# Altium footprint library SparkFun-Sensors.PCBLIB: 67 footprints (part 3 of 5)
Each footprint in its own frame and in the unit in brackets; x right, y up, seen from the top. Pads: shape width x height; smd on the part's side, far side on the other; paste and mask are expansions set on the pad; w line width, h text height; cw(c..) or ccw(c..) is an arc to the next point about the centre after c.
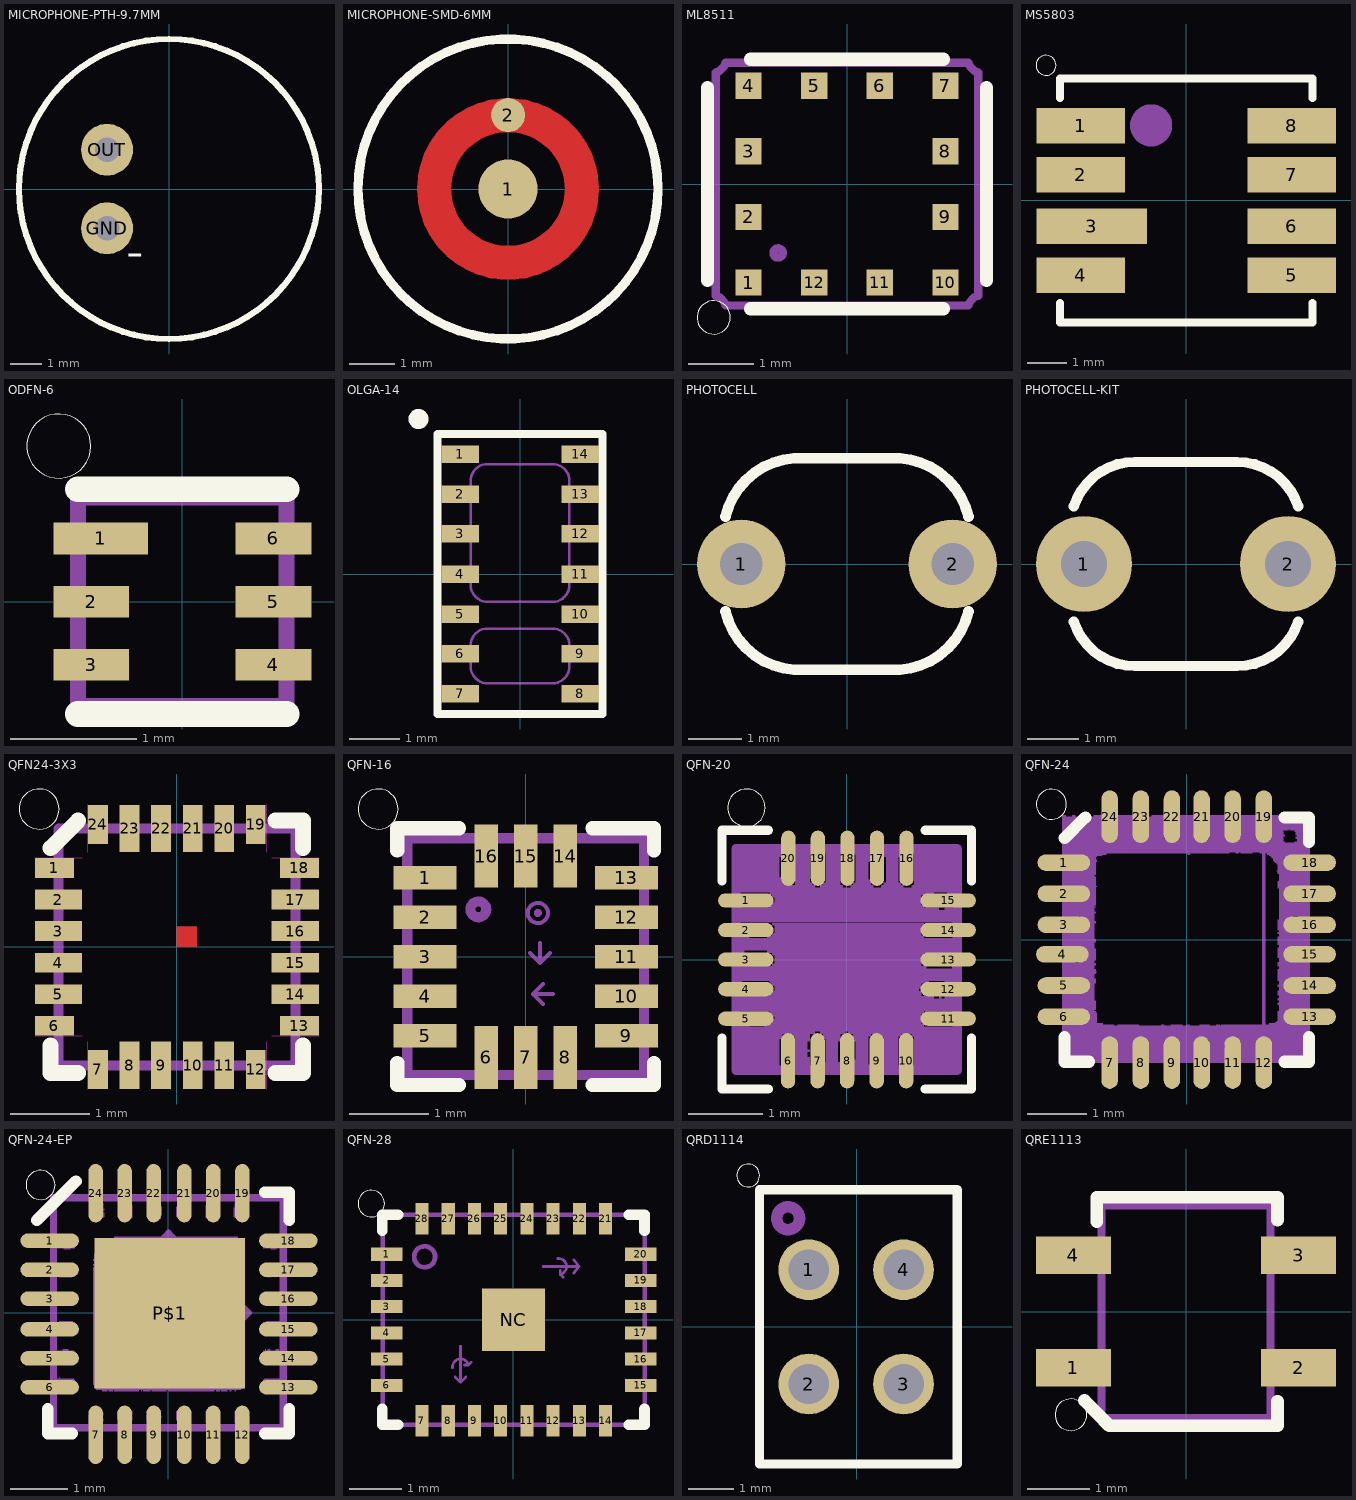
[diagram p2: the footprints below, top view; thin cyan lines are the x and y axes]

## MICROPHONE-PTH-9.7MM [mil]
pads (2):
  round 66 hole 31.5: GND(-78.74,-50) OUT(-78.74,50)
Top Overlay:
  circle w8: c0,0 r190.94
  text "-" at -54.57,-115.35 h77.5
Bottom Overlay:
  text "-" at -20.24,-115.35 h77.5

## MICROPHONE-SMD-6MM [mm]
pads (2):
  rrect100% 1.3x1.3 smd: 1(0,0)
  rrect100% 0.75x0.75 smd: 2(0.003,1.626)
Top Layer:
  circle w0.75: c0,0 r1.625
Top Overlay:
  circle w0.203: c0,0 r3.3
Top Paste:
  circle w0.305: c0,0 r1.632
  circle w0.406: c0,0 r0.153
Top Solder:
  circle w0.965: c0,0 r1.627

## ML8511 [mm]
pads (12):
  rect 0.4x0.4 smd: 1(-1.5,-1.5) 2(-1.5,-0.5) 3(-1.5,0.5) 4(-1.5,1.5) 5(-0.5,1.5) 6(0.5,1.5) 7(1.5,1.5) 8(1.5,0.5) 9(1.5,-0.5) 10(1.5,-1.5) 11(0.5,-1.5) 12(-0.5,-1.5)
Top Overlay:
  circle w0: c-2.032,-2.032 r0.254
  lines w0.203: -2.127,-1.47 -2.127,1.47 ; -1.47,-1.9 1.47,-1.9 ; -1.47,1.9 1.47,1.9 ; 2.127,-1.47 2.127,1.47
Top Solder:
  circle w0.2: c-1.05,-1.05 r0.05
Mechanical 16:
  circle w0.127: c-1.05,-1.05 r0.07
  lines w0.127: -2,-1.7 -2,1.7 ccw(c-2.063,1.913) -1.85,1.85 1.85,1.85 ccw(c2.063,1.913) 2,1.7 2,-1.7 ccw(c2.063,-1.913) 1.85,-1.85 -1.85,-1.85 ccw(c-2.063,-1.913) -2,-1.7

## MS5803 [mm]
pads (8):
  rect 2.25x0.9 smd: 1(-2.675,1.9) 2(-2.675,0.65) 4(-2.675,-1.9) 5(2.675,-1.9) 6(2.675,-0.65) 7(2.675,0.65) 8(2.675,1.9)
  rect 2.8x0.9 smd: 3(-2.4,-0.65)
Top Overlay:
  circle w0: c-3.556,3.429 r0.254
  lines w0.203: -3.2,-2.6 -3.2,-3.1 3.2,-3.1 3.2,-2.6 ; -3.2,2.6 -3.2,3.1 3.2,3.1 3.2,2.6
Mechanical 16:
  circle w0.813: c-0.889,1.905 r0.127

## ODFN-6 [mm]
pads (6):
  rect 0.75x0.25 smd: 1(-0.645,0.5)
  rect 0.6x0.25 smd: 2(-0.72,0) 3(-0.72,-0.5) 4(0.72,-0.5) 5(0.72,0) 6(0.72,0.5)
Top Overlay:
  circle w0: c-0.977,1.231 r0.254
  lines w0.203: -0.825,-0.888 0.825,-0.888 ; -0.825,0.888 0.825,0.888
Mechanical 16:
  lines w0.127: -0.825,-0.825 0.825,-0.825 0.825,0.825 -0.825,0.825 -0.825,-0.825

## OLGA-14 [mm]
pads (14):
  rect 0.75x0.35 smd: 1(-1.2,2.4) 2(-1.2,1.6) 3(-1.2,0.8) 4(-1.2,0) 5(-1.2,-0.8) 6(-1.2,-1.6) 7(-1.2,-2.4) 8(1.2,-2.4) 9(1.2,-1.6) 10(1.2,-0.8) 11(1.2,0) 12(1.2,0.8) 13(1.2,1.6) 14(1.2,2.4)
Top Overlay:
  circle w0.2: c-2.032,3.1 r0.1
  lines w0.152: -1.65,-2.8 1.65,-2.8 1.65,2.8 -1.65,2.8 -1.65,-2.8
Top Paste:
  rectangle: 0.87,2.24 1.53,2.56
  rectangle: -1.53,2.24 -0.87,2.56
  rectangle: -1.53,1.44 -0.87,1.76
  rectangle: -1.53,0.64 -0.87,0.96
  rectangle: -1.53,-0.16 -0.87,0.16
  rectangle: -1.53,-0.96 -0.87,-0.64
  rectangle: -1.53,-1.76 -0.87,-1.44
  rectangle: -1.53,-2.56 -0.87,-2.24
  rectangle: 0.87,-2.56 1.53,-2.24
  rectangle: 0.87,-1.76 1.53,-1.44
  rectangle: 0.87,-0.96 1.53,-0.64
  rectangle: 0.87,-0.16 1.53,0.16
  rectangle: 0.87,0.64 1.53,0.96
  rectangle: 0.87,1.44 1.53,1.76
Mechanical 16:
  lines w0.05: -0.985,-1.9 -0.985,-1.39 cw(c-0.645,-1.431) -0.7,-1.093 0.69,-1.093 cw(c0.646,-1.433) 0.985,-1.38 0.985,-1.89 cw(c0.647,-1.846) 0.7,-2.183 -0.69,-2.183 cw(c-0.649,-1.845) -0.985,-1.9 ; -0.985,-0.27 -0.985,1.9 cw(c-0.644,1.859) -0.7,2.197 0.69,2.197 cw(c0.646,1.857) 0.985,1.91 0.985,-0.26 cw(c0.647,-0.217) 0.7,-0.553 -0.69,-0.553 cw(c-0.649,-0.215) -0.985,-0.27

## PHOTOCELL [mil]
pads (2):
  round 66 hole 31.5: 1(-78.74,0) 2(78.74,0)
Top Overlay:
  lines w8: -90.55,-35.43 ccw(c-35.48,-22.25) -39.37,-78.74 39.37,-78.74 ccw(c35.48,-22.24) 90.55,-35.43 ; -90.55,35.43 cw(c-35.48,22.24) -39.37,78.74 39.37,78.74 cw(c35.48,22.25) 90.55,35.43

## PHOTOCELL-KIT [mil]
pads (2):
  round 74 hole 35.43: 1(-78.74,0) 2(78.74,0)
Top Overlay:
  lines w8: -86.55,-44.43 ccw(c-39.61,-29.48) -39.37,-78.74 39.37,-78.74 ccw(c39.61,-29.48) 86.55,-44.43 ; -86.55,44.43 cw(c-39.61,29.48) -39.37,78.74 39.37,78.74 cw(c39.61,29.48) 86.55,44.43
Top Solder:
  region: 0,0 10,0 10,10 0,10
  region: 0,0 10,0 10,10 0,10
Bottom Solder:
  region: 0,0 10,0 10,10 0,10
  region: 0,0 10,0 10,10 0,10

## QFN24-3X3 [mm]
pads (24):
  rect 0.495x0.25 smd: 1(-1.552,1) 6(-1.552,-1) 13(1.552,-1) 18(1.552,1)
  rect 0.6x0.25 smd: 2(-1.5,0.6) 3(-1.5,0.2) 4(-1.5,-0.2) 5(-1.5,-0.6) 14(1.5,-0.6) 15(1.5,-0.2) 16(1.5,0.2) 17(1.5,0.6)
  rect 0.25x0.495 smd: 7(-1,-1.552) 12(1,-1.552) 19(1,1.552) 24(-1,1.552)
  rect 0.25x0.6 smd: 8(-0.6,-1.5) 9(-0.2,-1.5) 10(0.2,-1.5) 11(0.6,-1.5) 20(0.6,1.5) 21(0.2,1.5) 22(-0.2,1.5) 23(-0.6,1.5)
Top Layer:
  region: 0,0 0.254,0 0.254,0.254 0,0.254
  region: 0,0 0.254,0 0.254,0.254 0,0.254
  region: 0,0 0.254,0 0.254,0.254 0,0.254
  region: 0,0 0.254,0 0.254,0.254 0,0.254
  region: 0,0 0.254,0 0.254,0.254 0,0.254
  region: 0,0 0.254,0 0.254,0.254 0,0.254
  region: 0,0 0.254,0 0.254,0.254 0,0.254
  region: 0,0 0.254,0 0.254,0.254 0,0.254
Top Layer keep-out:
  lines w0: -1.8,-1.13 -1.2,-1.13 ; -1.8,1.13 -1.2,1.13 ; -1.13,-1.8 -1.13,-1.2 ; -1.13,1.2 -1.13,1.8 ; 1.13,-1.8 1.13,-1.2 ; 1.13,1.2 1.13,1.8 ; 1.2,-1.13 1.8,-1.13 ; 1.2,1.13 1.8,1.13
Top Overlay:
  circle w0: c-1.746,1.746 r0.254
  lines w0.203: -1.6,-1.25 -1.6,-1.6 -1.25,-1.6 ; -1.6,1.25 -1.25,1.6 ; 1.25,-1.6 1.6,-1.6 1.6,-1.25 ; 1.25,1.6 1.6,1.6 1.6,1.25
Top Paste:
  rectangle: -1.725,0.475 -1.275,0.725
  rectangle: -1.725,0.875 -1.275,1.125
  rectangle: -1.725,0.075 -1.275,0.325
  rectangle: -1.725,-0.325 -1.275,-0.075
  rectangle: -1.725,-0.725 -1.275,-0.475
  rectangle: -1.725,-1.125 -1.275,-0.875
  region: -0.875,-1.725 -0.875,-1.275 -1.125,-1.275 -1.125,-1.725
  region: -0.475,-1.725 -0.475,-1.275 -0.725,-1.275 -0.725,-1.725
  region: -0.075,-1.725 -0.075,-1.275 -0.325,-1.275 -0.325,-1.725
  region: 0.325,-1.725 0.325,-1.275 0.075,-1.275 0.075,-1.725
  region: 0.725,-1.725 0.725,-1.275 0.475,-1.275 0.475,-1.725
  region: 1.125,-1.725 1.125,-1.275 0.875,-1.275 0.875,-1.725
  region: 1.725,-0.875 1.275,-0.875 1.275,-1.125 1.725,-1.125
  region: 1.725,-0.475 1.275,-0.475 1.275,-0.725 1.725,-0.725
  region: 1.725,0.325 1.275,0.325 1.275,0.075 1.725,0.075
  region: 1.725,-0.075 1.275,-0.075 1.275,-0.325 1.725,-0.325
  region: 1.725,0.725 1.275,0.725 1.275,0.475 1.725,0.475
  region: 1.725,1.125 1.275,1.125 1.275,0.875 1.725,0.875
  region: 0.875,1.725 0.875,1.275 1.125,1.275 1.125,1.725
  region: 0.475,1.725 0.475,1.275 0.725,1.275 0.725,1.725
  region: 0.075,1.725 0.075,1.275 0.325,1.275 0.325,1.725
  region: -0.325,1.725 -0.325,1.275 -0.075,1.275 -0.075,1.725
  region: -0.725,1.725 -0.725,1.275 -0.475,1.275 -0.475,1.725
  region: -1.125,1.725 -1.125,1.275 -0.875,1.275 -0.875,1.725
Top Solder:
  rectangle: -1.203,0.773 -1.099,1.226
  region: -0.773,-1.203 -0.773,-1.099 -1.226,-1.099 -1.226,-1.203
  region: 1.203,-0.773 1.099,-0.773 1.099,-1.226 1.203,-1.226
  region: 0.773,1.203 0.773,1.099 1.226,1.099 1.226,1.203
  region: -1.226,1.203 -1.226,1.099 -0.773,1.099 -0.773,1.203
  rectangle: -1.203,-1.226 -1.099,-0.773
  region: 1.226,-1.203 1.226,-1.099 0.773,-1.099 0.773,-1.203
  region: 1.203,1.226 1.099,1.226 1.099,0.773 1.203,0.773
Mechanical 16:
  region: 0,0 0.254,0 0.254,0.254 0,0.254
  region: 0,0 0.254,0 0.254,0.254 0,0.254
  region: 0,0 0.254,0 0.254,0.254 0,0.254
  region: 0,0 0.254,0 0.254,0.254 0,0.254
  region: 0,0 0.254,0 0.254,0.254 0,0.254
  region: 0,0 0.254,0 0.254,0.254 0,0.254
  region: 0,0 0.254,0 0.254,0.254 0,0.254
  region: 0,0 0.254,0 0.254,0.254 0,0.254
  region: 0,0 0.254,0 0.254,0.254 0,0.254
  region: 0,0 0.254,0 0.254,0.254 0,0.254
  region: 0,0 0.254,0 0.254,0.254 0,0.254
  region: 0,0 0.254,0 0.254,0.254 0,0.254
  region: 0,0 0.254,0 0.254,0.254 0,0.254
  region: 0,0 0.254,0 0.254,0.254 0,0.254
  region: 0,0 0.254,0 0.254,0.254 0,0.254
  region: 0,0 0.254,0 0.254,0.254 0,0.254
  region: 0,0 0.254,0 0.254,0.254 0,0.254
  region: 0,0 0.254,0 0.254,0.254 0,0.254
  region: 0,0 0.254,0 0.254,0.254 0,0.254
  region: 0,0 0.254,0 0.254,0.254 0,0.254
  region: 0,0 0.254,0 0.254,0.254 0,0.254
  region: 0,0 0.254,0 0.254,0.254 0,0.254
  region: 0,0 0.254,0 0.254,0.254 0,0.254
  region: 0,0 0.254,0 0.254,0.254 0,0.254
  region: 0,0 0.254,0 0.254,0.254 0,0.254
  lines w0.127: -1.5,-1.5 -1.5,1.5 1.5,1.5 1.5,-1.5 -1.5,-1.5

## QFN-16 [mil]
pads (16):
  rect 31.5x11.81 smd: 1(-50.2,39.37) 2(-50.2,19.69) 3(-50.2,0) 4(-50.2,-19.69) 5(-50.2,-39.37) 9(50.2,-39.37) 10(50.2,-19.69) 11(50.2,0) 12(50.2,19.69) 13(50.2,39.37)
  rect 11.81x31.5 smd: 6(-19.69,-50.2) 7(0,-50.2) 8(19.69,-50.2) 14(19.69,50.2) 15(0,50.2) 16(-19.69,50.2)
Top Overlay:
  circle w0: c-73.62,73.62 r10
  lines w7: -64.06,-52.88 -64.06,-64.06 -33.2,-64.06 ; -64.06,52.88 -64.06,64.06 -33.2,64.06 ; 33.2,-64.06 64.06,-64.06 64.06,-52.88 ; 33.2,64.06 64.06,64.06 64.06,52.88
Mechanical 16:
  circle w5: c-23.62,23.62 r3.94
  circle w2: c6.06,21.81 r5
  circle w2: c6.06,21.81 r1
  rectangle: -4.92,-55.12 4.92,-36.73
  rectangle: 14.76,-55.12 24.61,-36.73
  rectangle: -24.61,-55.12 -14.76,-36.73
  region: 4.92,55.12 -4.92,55.12 -4.92,36.73 4.92,36.73
  region: 24.61,55.12 14.76,55.12 14.76,36.73 24.61,36.73
  region: -14.76,55.12 -24.61,55.12 -24.61,36.73 -14.76,36.73
  rectangle: -55.12,-4.92 -36.73,4.92
  rectangle: -55.12,14.76 -36.73,24.61
  rectangle: -55.12,34.45 -36.73,44.29
  rectangle: -55.12,-24.61 -36.73,-14.76
  rectangle: -55.12,-44.29 -36.73,-34.45
  region: 55.12,4.92 36.73,4.92 36.73,-4.92 55.12,-4.92
  region: 55.12,24.61 36.73,24.61 36.73,14.76 55.12,14.76
  region: 55.12,44.29 36.73,44.29 36.73,34.45 55.12,34.45
  region: 55.12,-14.76 36.73,-14.76 36.73,-24.61 55.12,-24.61
  region: 55.12,-34.45 36.73,-34.45 36.73,-44.29 55.12,-44.29
  lines w2: 2.13,1.81 7.13,-3.19 ; 7.13,6.81 7.13,-3.19 ; 8.62,-23.62 3.62,-18.62 ; 8.62,-13.62 3.62,-18.62 ; 12.13,1.81 7.13,-3.19 ; 13.62,-18.62 3.62,-18.62
  lines w5: -59.06,-59.06 -59.06,59.06 59.06,59.06 59.06,-59.06 -59.06,-59.06
  text "X" at -11.81,-23.62 h18.6
  text "Y" at -11.81,-3.94 h18.6
  text "Z" at -11.81,15.75 h18.6

## QFN-20 [mil]
pads (20):
  rrect100% 29.53x7.68 smd: 1(-53.82,31.5) 2(-53.82,15.75) 3(-53.82,0) 4(-53.82,-15.75) 5(-53.82,-31.5) 11(54.12,-31.5) 12(54.12,-15.75) 13(54.12,0) 14(54.12,15.75) 15(54.12,31.5)
  rrect100% 7.68x29.53 smd: 6(-31.3,-54.02) 7(-15.55,-54.02) 8(0.2,-54.02) 9(15.95,-54.02) 10(31.7,-54.02) 16(31.9,54.02) 17(16.15,54.02) 18(0.4,54.02) 19(-15.35,54.02) 20(-31.1,54.02)
Top Overlay:
  circle w0: c-53.48,80.98 r10
  lines w5: -66.56,-41.87 -66.56,-69.06 -41.87,-69.06 ; -66.56,41.87 -66.56,69.06 -41.87,69.06 ; 41.87,-69.06 66.56,-69.06 66.56,-41.87 ; 41.87,69.06 66.56,69.06 66.56,41.87
Top Solder:
  rectangle: -66,-67 67,67
Mechanical 16:
  circle w5: c-25.98,25.98 r1.97
  lines w5: -59.06,-59.06 -59.06,59.06 59.06,59.06 59.06,-59.06 -59.06,-59.06
Mech84:
  drawing of 245 lines, arcs and shapes, not listed

## QFN-24 [mil]
pads (24):
  rrect100% 35x11 smd: 1(-81.74,51.21) 2(-81.74,30.53) 3(-81.74,9.84) 4(-82.74,-9.84) 5(-81.74,-30.53) 6(-81.74,-51.21) 13(81.74,-51.21) 14(81.74,-30.53) 15(81.74,-9.84) 16(81.74,9.84) 17(81.74,30.53) 18(81.74,51.21)
  rrect100% 11x35 smd: 7(-51.21,-81.74) 8(-30.53,-81.74) 9(-9.84,-81.74) 10(9.84,-81.74) 11(30.53,-81.74) 12(51.21,-81.74) 19(51.21,81.74) 20(30.53,81.74) 21(9.84,81.74) 22(-9.84,81.74) 23(-30.53,81.74) 24(-51.21,81.74)
Top Overlay:
  circle w0: c-90,90 r10
  lines w8: -81.24,-64.96 -81.24,-81.24 -64.96,-81.24 ; -81.24,67.46 -67.46,81.24 ; 64.96,-81.24 81.24,-81.24 81.24,-64.96 ; 64.96,81.24 81.24,81.24 81.24,64.96
Mechanical 14:
  lines w2: 51.2,-79.2 51.2,79.8
Mech84:
  drawing of 757 lines, arcs and shapes, not listed

## QFN-24-EP [mil]
pads (25):
  rrect100% 40x10 smd: 1(-81.35,49.48) 2(-81.35,29.51) 3(-81.35,9.74) 4(-81.35,-11.32) 5(-81.35,-31.19) 6(-81.35,-51.05) 13(82.13,-51.05) 14(82.13,-31.19) 15(82.13,-11.32) 16(82.13,9.74) 17(82.13,29.51) 18(82.13,49.48)
  rrect100% 10x40 smd: 7(-49.87,-83.53) 8(-30,-83.53) 9(-10.14,-83.53) 10(10.93,-83.53) 11(30.69,-83.53) 12(50.66,-83.53) 19(50.66,81.95) 20(30.69,81.95) 21(10.93,81.95) 22(-10.14,81.95) 23(-30,81.95) 24(-49.87,81.95)
  rect 103x103 smd: P$1(0.79,-0.39)
Top Overlay:
  circle w0: c-87.58,87.58 r10
  lines w8: -90.18,63.37 -63.37,90.18 ; -82.68,-65.87 -82.68,-82.68 -65.87,-82.68 ; 65.87,-82.68 82.68,-82.68 82.68,-65.87 ; 65.87,82.68 82.68,82.68 82.68,63.37
Top Paste:
  rectangle: -33,13 -14,32
  rectangle: 17,13 36,32
  rectangle: -32.5,-34.5 -13.5,-15.5
  rectangle: 15.5,-34.5 34.5,-15.5
Mechanical 16:
  circle w3.94: c0,0 r7.87
  lines w3.94: -11.81,27.56 cw(c0,25.59) 11.81,27.56 ; -7.87,47.24 0,55.12 ; 0,7.87 0,55.12 ; 7.87,0 55.12,0 ; 7.87,27.56 11.81,27.56 ; 7.87,47.24 0,55.12 ; 15.75,31.5 11.81,27.56 ; 27.56,-7.87 27.56,-11.81 ; 27.56,11.81 cw(c25.59,0) 27.56,-11.81 ; 31.5,-15.75 27.56,-11.81 ; 47.24,-7.87 55.12,0 ; 47.24,7.87 55.12,0
  lines w5: -78.74,-78.74 78.74,-78.74 78.74,78.74 -78.74,78.74 -78.74,-78.74
  text "Y" at -23.62,39.37 h15.5
  text "X" at 43.31,15.75 h15.5
  text "Z" at -3.94,-23.62 h15.5
Mech84:
  drawing of 620 lines, arcs and shapes, not listed

## QFN-28 [mm]
pads (29):
  rect 0.6x0.25 smd: 1(-2.417,1.25) 2(-2.417,0.75) 3(-2.417,0.25) 4(-2.417,-0.25) 5(-2.417,-0.75) 6(-2.417,-1.25) 15(2.433,-1.25) 16(2.433,-0.75) 17(2.433,-0.25) 18(2.433,0.25) 19(2.433,0.75) 20(2.433,1.25)
  rect 0.25x0.6 smd: 7(-1.742,-1.925) 8(-1.242,-1.925) 9(-0.742,-1.925) 10(-0.242,-1.925) 11(0.258,-1.925) 12(0.758,-1.925) 13(1.258,-1.925) 14(1.758,-1.925) 21(1.758,1.925) 22(1.258,1.925) 23(0.758,1.925) 24(0.258,1.925) 25(-0.242,1.925) 26(-0.742,1.925) 27(-1.242,1.925) 28(-1.742,1.925)
  rect 1.2x1.2 smd: NC(0,0)
Top Overlay:
  circle w0: c-2.708,2.216 r0.254
  lines w0.203: -2.5,-1.7 -2.5,-2 -2.2,-2 ; -2.5,1.7 -2.5,2 -2.2,2 ; 2.2,-2 2.5,-2 2.5,-1.7 ; 2.2,2 2.5,2 2.5,1.7
Top Paste:
  region: -0.65,1.65 -0.65,2.1 -0.85,2.1 -0.85,1.65
  region: -0.65,1.65 -0.65,2.1 -0.85,2.1 -0.85,1.65
  region: -0.65,1.65 -0.65,2.1 -0.85,2.1 -0.85,1.65
  region: -0.15,1.65 -0.15,2.1 -0.35,2.1 -0.35,1.65
  region: 0.35,1.65 0.35,2.1 0.15,2.1 0.15,1.65
  region: 0.85,1.65 0.85,2.1 0.65,2.1 0.65,1.65
  region: 1.35,1.65 1.35,2.1 1.15,2.1 1.15,1.65
  region: 1.85,1.65 1.85,2.1 1.65,2.1 1.65,1.65
  region: -1.15,1.65 -1.15,2.1 -1.35,2.1 -1.35,1.65
  region: -1.65,1.65 -1.65,2.1 -1.85,2.1 -1.85,1.65
  region: -2.15,-1.15 -2.6,-1.15 -2.6,-1.35 -2.15,-1.35
  region: -2.15,-1.15 -2.6,-1.15 -2.6,-1.35 -2.15,-1.35
  region: -2.15,-1.15 -2.6,-1.15 -2.6,-1.35 -2.15,-1.35
  region: -2.15,-0.65 -2.6,-0.65 -2.6,-0.85 -2.15,-0.85
  region: -2.15,-0.15 -2.6,-0.15 -2.6,-0.35 -2.15,-0.35
  region: -2.15,0.35 -2.6,0.35 -2.6,0.15 -2.15,0.15
  region: -2.15,0.85 -2.6,0.85 -2.6,0.65 -2.15,0.65
  region: -2.15,1.35 -2.6,1.35 -2.6,1.15 -2.15,1.15
  region: -1.85,-1.65 -1.85,-2.1 -1.65,-2.1 -1.65,-1.65
  region: -1.35,-1.65 -1.35,-2.1 -1.15,-2.1 -1.15,-1.65
  region: -0.85,-1.65 -0.85,-2.1 -0.65,-2.1 -0.65,-1.65
  region: -0.35,-1.65 -0.35,-2.1 -0.15,-2.1 -0.15,-1.65
  rectangle: 2.15,-0.85 2.6,-0.65
  rectangle: 2.15,-0.85 2.6,-0.65
  rectangle: 2.15,-0.85 2.6,-0.65
  rectangle: 2.15,-1.35 2.6,-1.15
  region: 1.65,-1.65 1.65,-2.1 1.85,-2.1 1.85,-1.65
  region: 1.15,-1.65 1.15,-2.1 1.35,-2.1 1.35,-1.65
  region: 0.65,-1.65 0.65,-2.1 0.85,-2.1 0.85,-1.65
  region: 0.15,-1.65 0.15,-2.1 0.35,-2.1 0.35,-1.65
  rectangle: 2.15,-0.35 2.6,-0.15
  rectangle: 2.15,0.15 2.6,0.35
  rectangle: 2.15,0.65 2.6,0.85
  rectangle: 2.15,1.15 2.6,1.35
  rectangle: -0.6,-0.6 0.6,0.6
Top Solder:
  rectangle: -2.742,1.1 -2.092,1.4
  rectangle: -2.742,0.6 -2.092,0.9
  rectangle: -2.742,0.1 -2.092,0.4
  rectangle: -2.742,-0.4 -2.092,-0.1
  rectangle: -2.742,-0.9 -2.092,-0.6
  rectangle: -2.742,-1.4 -2.092,-1.1
  rectangle: -1.892,-2.25 -1.592,-1.6
  rectangle: -1.392,-2.25 -1.092,-1.6
  region: -0.892,-1.6 -0.892,-2.25 -0.592,-2.25 -0.592,-1.6
  region: -0.392,-1.6 -0.392,-2.25 -0.092,-2.25 -0.092,-1.6
  region: 0.108,-1.6 0.108,-2.25 0.408,-2.25 0.408,-1.6
  region: 0.608,-1.6 0.608,-2.25 0.908,-2.25 0.908,-1.6
  region: 1.108,-1.6 1.108,-2.25 1.408,-2.25 1.408,-1.6
  region: 1.608,-1.6 1.608,-2.25 1.908,-2.25 1.908,-1.6
  rectangle: 2.108,-1.4 2.758,-1.1
  rectangle: 2.108,-0.9 2.758,-0.6
  rectangle: 2.108,-0.4 2.758,-0.1
  rectangle: 2.108,0.1 2.758,0.4
  region: 2.108,0.9 2.108,0.6 2.758,0.6 2.758,0.9
  region: 2.108,1.4 2.108,1.1 2.758,1.1 2.758,1.4
  rectangle: 1.608,1.6 1.908,2.25
  rectangle: 1.108,1.6 1.408,2.25
  rectangle: 0.608,1.6 0.908,2.25
  rectangle: 0.108,1.6 0.408,2.25
  rectangle: -0.392,1.6 -0.092,2.25
  rectangle: -0.892,1.6 -0.592,2.25
  rectangle: -1.392,1.6 -1.092,2.25
  rectangle: -1.892,1.6 -1.592,2.25
  rectangle: -0.6,-0.6 0.6,0.6
Mechanical 16:
  circle w0.09: c-1.692,1.2 r0.2
  lines w0.051: -1.161,-0.914 cw(c-1.006,-0.902) -0.856,-0.864 ; -1.11,-1.092 -1.008,-1.194 ; -1.008,-0.508 -1.008,-1.194 ; -0.932,-0.864 -0.856,-0.864 ; -0.907,-1.092 -1.008,-1.194 ; -0.805,-0.813 -0.856,-0.864 ; 0.567,1.016 1.253,1.016 ; 0.846,1.168 cw(c0.859,1.014) 0.897,0.864 ; 0.897,0.94 0.897,0.864 ; 0.948,0.813 0.897,0.864 ; 1.151,0.889 1.253,1.016 ; 1.151,1.143 1.253,1.016
  lines w0.09: -2.492,-2 2.508,-2 2.508,2 -2.492,2 -2.492,-2
  text "X" at 0.592,1.118 h0.35
  text "Y" at -1.262,-0.61 h0.35

## QRD1114 [mil]
pads (4):
  round 53.15 hole 35.43: 1(-42,50) 2(-42,-50) 3(41,-50) 4(41,50)
Top Overlay:
  circle w0: c-95,132.5 r10
  lines w8: -85,-120 -85,120 88,120 88,-120 -85,-120
Mechanical 16:
  circle w10: c-60,95 r10

## QRE1113 [mm]
pads (4):
  rect 1.2x0.6 smd: 1(-1.8,-0.9) 2(1.8,-0.9) 3(1.8,0.9) 4(-1.8,0.9)
Top Overlay:
  circle w0: c-1.841,-1.651 r0.254
  lines w0.203: -1.624,-1.424 -1.227,-1.827 1.464,-1.827 1.464,-1.437 ; -1.427,1.437 -1.427,1.827 1.464,1.827 1.464,1.464
Mechanical 16:
  lines w0.127: -1.35,-1.7 -1.35,1.7 1.35,1.7 1.35,-1.7 -1.35,-1.7